# EAGLE library part ACSL-6400-00TE (library SSW-130-01-G-S)
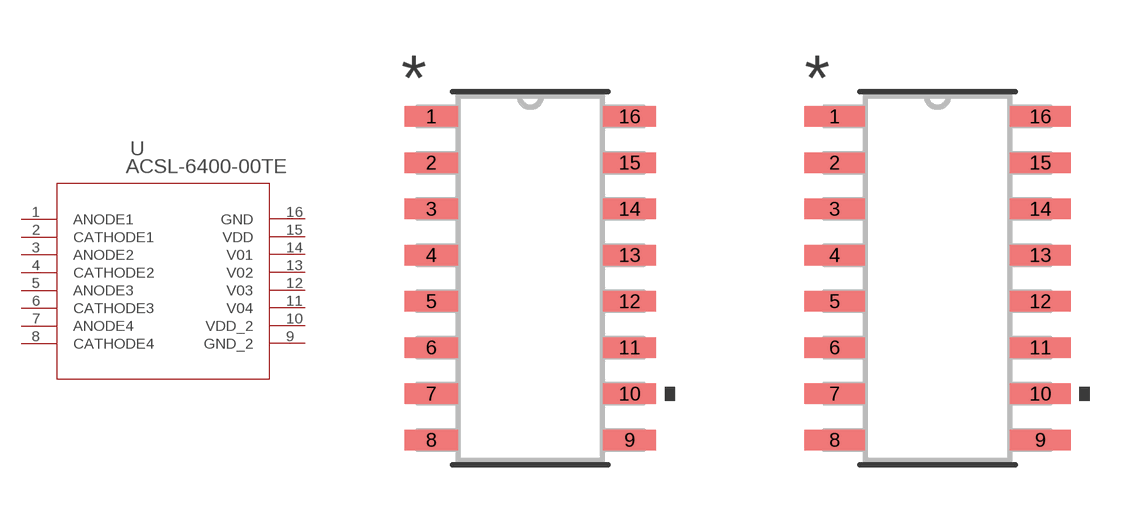
[diagram p6: symbol with the pads of SOIC_6400-00TE; footprints SOIC_6400-00TE, SOIC_6400-00TE-M]

Designator prefix U

## ACSL-6400-00TE (COPYRIGHT: Copyright (C) 2024 Ultra Librarian. All rights reserved.; MANUFACTURER_PART_NUMBER: ACSL-6400-00TE; MFR_NAME: Broadcom)  [SOIC_6400-00TE]
1  ANODE1
2  CATHODE1
3  ANODE2
4  CATHODE2
5  ANODE3
6  CATHODE3
7  ANODE4
8  CATHODE4
9  GND_2  pas
10  VDD_2  pwr
11  V04
12  V03
13  V02
14  V01
15  VDD  pwr
16  GND  pas

## ACSL-6400-00TESOIC_6400-00TE-M (COPYRIGHT: Copyright (C) 2024 Ultra Librarian. All rights reserved.; MANUFACTURER_PART_NUMBER: ACSL-6400-00TE; MFR_NAME: Broadcom)  [SOIC_6400-00TE-M]
Pads as for SOIC_6400-00TE

## ACSL-6400-00TESOIC_6400-00TE-L (COPYRIGHT: Copyright (C) 2024 Ultra Librarian. All rights reserved.; MANUFACTURER_PART_NUMBER: ACSL-6400-00TE; MFR_NAME: Broadcom)  [SOIC_6400-00TE-L]
Pads as for SOIC_6400-00TE

## Footprint SOIC_6400-00TE (pad centres in mm)
smd 1.46 x 0.559: 1 -2.724,4.445; 2 -2.724,3.175; 3 -2.724,1.905; 4 -2.724,0.635; 5 -2.724,-0.635; 6 -2.724,-1.905; 7 -2.724,-3.175; 8 -2.724,-4.445; 9 2.724,-4.445; 10 2.724,-3.175; 11 2.724,-1.905; 12 2.724,-0.635; 13 2.724,0.635; 14 2.724,1.905; 15 2.724,3.175; 16 2.724,4.445

## Footprint SOIC_6400-00TE-M (pad centres in mm)
smd 1.664 x 0.559: 1 -2.826,4.445; 2 -2.826,3.175; 3 -2.826,1.905; 4 -2.826,0.635; 5 -2.826,-0.635; 6 -2.826,-1.905; 7 -2.826,-3.175; 8 -2.826,-4.445; 9 2.826,-4.445; 10 2.826,-3.175; 11 2.826,-1.905; 12 2.826,-0.635; 13 2.826,0.635; 14 2.826,1.905; 15 2.826,3.175; 16 2.826,4.445

## Footprint SOIC_6400-00TE-L (pad centres in mm)
smd 1.257 x 0.508: 1 -2.623,4.445; 2 -2.623,3.175; 3 -2.623,1.905; 4 -2.623,0.635; 5 -2.623,-0.635; 6 -2.623,-1.905; 7 -2.623,-3.175; 8 -2.623,-4.445; 9 2.623,-4.445; 10 2.623,-3.175; 11 2.623,-1.905; 12 2.623,-0.635; 13 2.623,0.635; 14 2.623,1.905; 15 2.623,3.175; 16 2.623,4.445